# EAGLE library part ISL84541IBZ (library Intersil_By_element14_Batch_1)
Low-Voltage, Single Supply, Dual SPST, SPDT Analog Switches
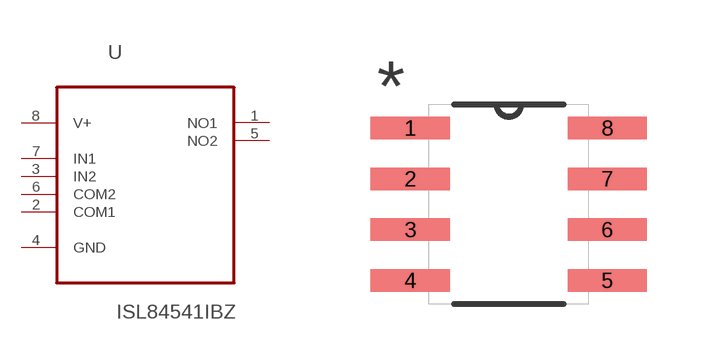
[diagram p226: symbol with the pads of SOIC127P600X175-8N; footprint SOIC127P600X175-8N]

Designator prefix U

## ISL84541IBZ (MPN: ISL84541IBZ; OC_FARNELL: 9664017; OC_NEWARK: 24M2973; PACKAGE: SOIC-8; SUPPLIER: Intersil)  [SOIC127P600X175-8N]
1  NO1  out
2  COM1  in
3  IN2  in
4  GND  pas
5  NO2  out
6  COM2  in
7  IN1  in
8  V+  pwr

## Footprint SOIC127P600X175-8N (pad centres in mm)
smd 1.981 x 0.559: 1 -2.464,1.905; 2 -2.464,0.635; 3 -2.464,-0.635; 4 -2.464,-1.905; 5 2.464,-1.905; 6 2.464,-0.635; 7 2.464,0.635; 8 2.464,1.905